# EAGLE library part HIP4082 (library noah)
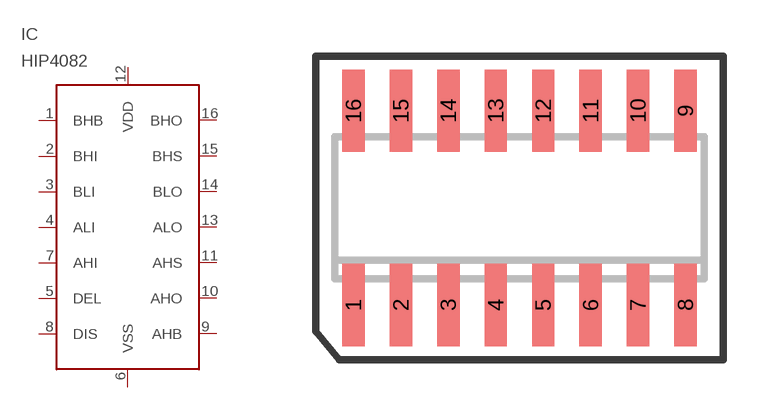
[diagram p46: symbol with the pads of SO16; footprint SO16]

Designator prefix IC

## HIP4082  [SO16]
1  BHB  in
2  BHI  in
3  BLI  in
4  ALI  in
5  DEL  in
6  VSS  pwr
7  AHI  in
8  DIS  in
9  AHB  out
10  AHO  in
11  AHS  out
12  VDD  pwr
13  ALO  pas
14  BLO  out
15  BHS  in
16  BHO  out

## Footprint SO16 (pad centres in mm)
SMALL OUTLINE INTEGRATED CIRCUIT body 3.9 mm/JEDEC MS-012AC
smd 0.6 x 2.2: 1 -4.445,-2.6; 2 -3.175,-2.6; 3 -1.905,-2.6; 4 -0.635,-2.6; 5 0.635,-2.6; 6 1.905,-2.6; 7 3.175,-2.6; 8 4.445,-2.6; 9 4.445,2.6; 10 3.175,2.6; 11 1.905,2.6; 12 0.635,2.6; 13 -0.635,2.6; 14 -1.905,2.6; 15 -3.175,2.6; 16 -4.445,2.6